# Altium footprint library SuperBot_PcbLib1.PcbLib: 44 footprints (part 3 of 3)
Each footprint in its own frame and in the unit in brackets; x right, y up, seen from the top. Pads: shape width x height; smd on the part's side, far side on the other; paste and mask are expansions set on the pad; w line width, h text height; cw(c..) or ccw(c..) is an arc to the next point about the centre after c.
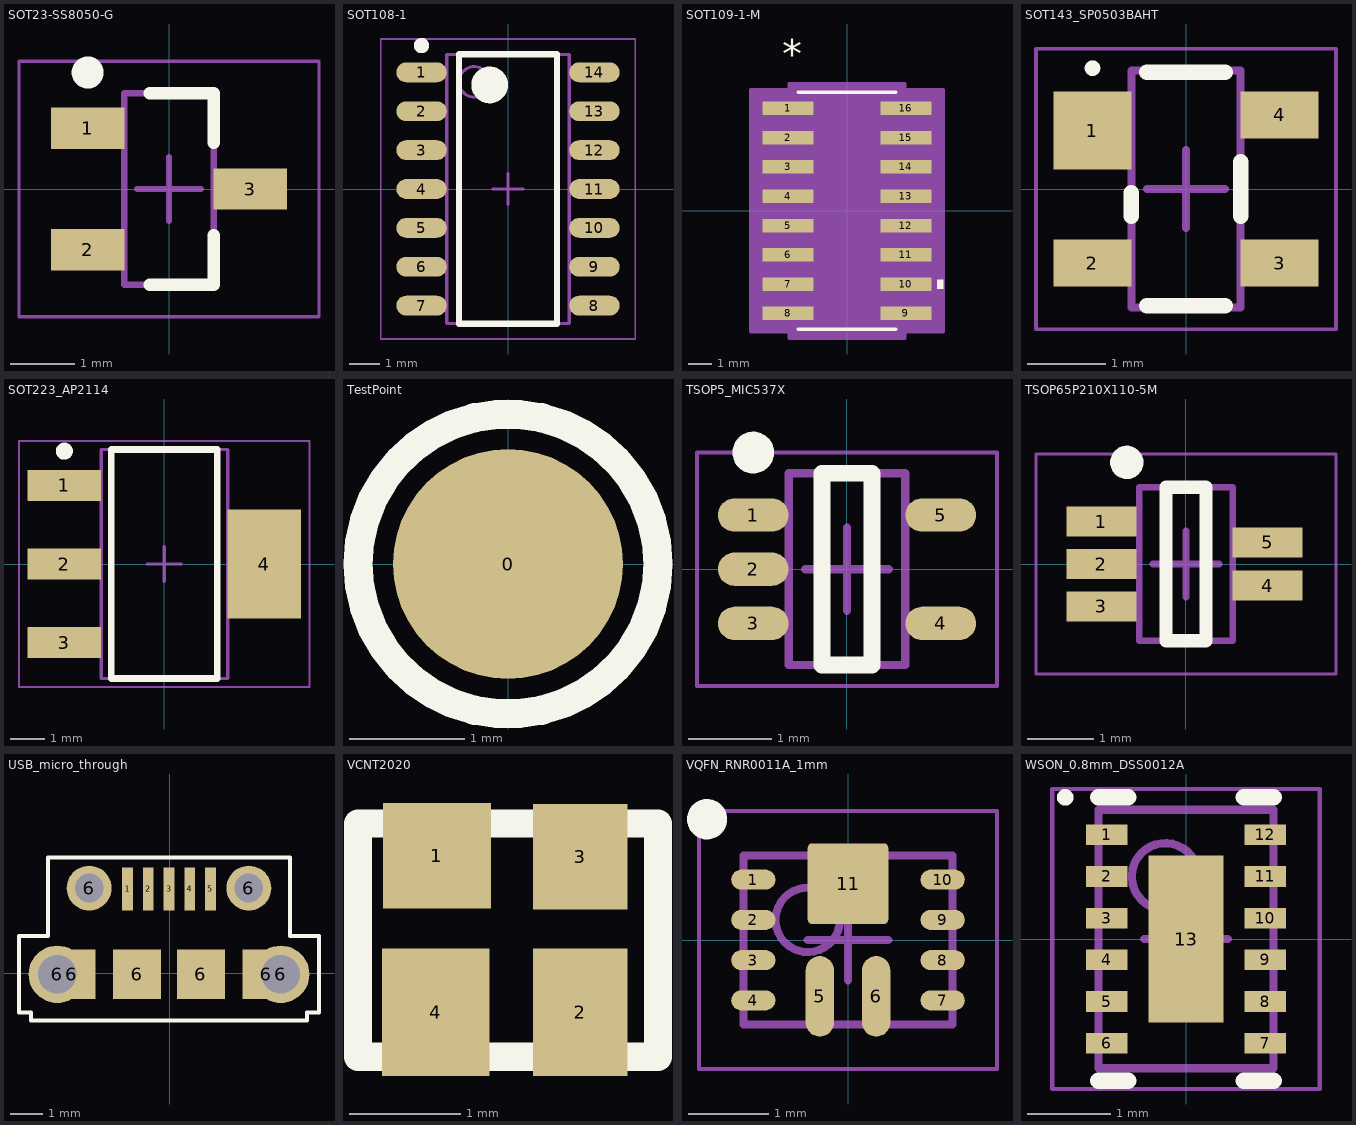
[diagram p2: the footprints below, top view; thin cyan lines are the x and y axes]

## SOT23-SS8050-G [mm] "SOT23, 3-Leads, Body 2.90x2.40mm, Pitch 0.95mm, IPC Low Density"
height 1.15
pads (3):
  rect 1.15x0.65 smd: 1(-1.275,0.95) 2(-1.275,-0.95) 3(1.275,0)
Top Overlay:
  circle w0.25: c-1.275,1.825 r0.125
  lines w0.2: -0.3,-1.5 0.7,-1.5 0.7,-0.725 ; -0.3,1.5 0.7,1.5 0.7,0.725
Mechanical 13:
  lines w0.1: -0.7,-1.5 0.7,-1.5 0.7,1.5 -0.7,1.5 -0.7,-1.5
Mechanical 15:
  lines w0.05: -2.35,-2 2.35,-2 2.35,2 -2.35,2 -2.35,-2
  lines w0.1: -0.5,0 0.5,0 ; 0,-0.5 0,0.5
3D body "SOT95P240X115-3M.step": height 1.15, standoff 0, extent -1.275,-1.5 1.275,1.5

## SOT108-1 [mm] "SO14 POP 14 3.9mm Low Density (74HC(T)164 Nexperia)"
height 1.75
pads (14):
  oval 1.65x0.65 smd: 1(-2.825,3.81) 2(-2.825,2.54) 3(-2.825,1.27) 4(-2.825,0) 5(-2.825,-1.27) 6(-2.825,-2.54) 7(-2.825,-3.81) 8(2.825,-3.81) 9(2.825,-2.54) 10(2.825,-1.27) 11(2.825,0) 12(2.825,1.27) 13(2.825,2.54) 14(2.825,3.81)
Top Overlay:
  circle w0.6: c-0.6,3.4 r0.3
  circle w0.25: c-2.825,4.685 r0.125
  lines w0.2: -1.6,-4.4 1.6,-4.4 1.6,4.4 -1.6,4.4 -1.6,-4.4
Mechanical 13:
  circle w0.1: c-1.1,3.5 r0.5
  lines w0.1: -2,-4.4 2,-4.4 2,4.4 -2,4.4 -2,-4.4
Mechanical 15:
  lines w0.05: -4.15,-4.9 4.15,-4.9 4.15,4.9 -4.15,4.9 -4.15,-4.9
  lines w0.1: -0.5,0 0.5,0 ; 0,-0.5 0,0.5
3D body "SOT108-1.step": height 1.75, standoff 0, extent -3,-4.4 3,4.4

## SOT109-1-M [mil]
pads (16):
  rect 87x23 smd paste+0 mask+0: 1(-100.5,175) 2(-100.5,125) 3(-100.5,75) 4(-100.5,25) 5(-100.5,-25) 6(-100.5,-75) 7(-100.5,-125) 8(-100.5,-175) 9(100.5,-175) 10(100.5,-125) 11(100.5,-75) 12(100.5,-25) 13(100.5,25) 14(100.5,75) 15(100.5,125) 16(100.5,175)
Top Overlay:
  region: 154,-117.5 164,-117.5 164,-132.5 154,-132.5
  lines w6: -83.5,-202 83.5,-202 ; -83.5,202 83.5,202
  text "*" at -110.5,243 h50
Mechanical 13:
  lines w0: -12,197 ccw(c0,197) 12,197
  lines w1: -122,-184.5 -122,-165.5 -78.5,-165.5 -78.5,-184.5 -122,-184.5 ; -122,-134.5 -122,-115.5 -78.5,-115.5 -78.5,-134.5 -122,-134.5 ; -122,-84.5 -122,-65.5 -78.5,-65.5 -78.5,-84.5 -122,-84.5 ; -122,-34.5 -122,-15.5 -78.5,-15.5 -78.5,-34.5 -122,-34.5 ; -122,15.5 -122,34.5 -78.5,34.5 -78.5,15.5 -122,15.5 ; -122,65.5 -122,84.5 -78.5,84.5 -78.5,65.5 -122,65.5 ; -122,115.5 -122,134.5 -78.5,134.5 -78.5,115.5 -122,115.5 ; -122,165.5 -122,184.5 -78.5,184.5 -78.5,165.5 -122,165.5 ; -78.5,-197 78.5,-197 78.5,197 -78.5,197 -78.5,-197 ; 78.5,-184.5 78.5,-165.5 122,-165.5 122,-184.5 78.5,-184.5 ; 78.5,-134.5 78.5,-115.5 122,-115.5 122,-134.5 78.5,-134.5 ; 78.5,-84.5 78.5,-65.5 122,-65.5 122,-84.5 78.5,-84.5 ; 78.5,-34.5 78.5,-15.5 122,-15.5 122,-34.5 78.5,-34.5 ; 78.5,15.5 78.5,34.5 122,34.5 122,15.5 78.5,15.5 ; 78.5,65.5 78.5,84.5 122,84.5 122,65.5 78.5,65.5 ; 78.5,115.5 78.5,134.5 122,134.5 122,115.5 78.5,115.5 ; 78.5,165.5 78.5,184.5 122,184.5 122,165.5 78.5,165.5
  text "*" at -63.5,194 h50
Mechanical 15:
  region: -98.5,-206.5 -164,-206.5 -164,206.5 -98.5,206.5 -98.5,217 98.5,217 98.5,206.5 164,206.5 164,-206.5 98.5,-206.5 98.5,-217 -98.5,-217
  lines w6: -164,-206.5 -164,206.5 -98.5,206.5 -98.5,217 98.5,217 98.5,206.5 164,206.5 164,-206.5 98.5,-206.5 98.5,-217 -98.5,-217 -98.5,-206.5 -164,-206.5
3D body: height 10, standoff 0, extent 0,0 10,10

## SOT143_SP0503BAHT [mm] "SOT143, 4-Leads, Body 2.92x2.37mm, Pitch 1.90mm, IPC Medium Density"
height 1.2
pads (4):
  rect 1x1 smd: 1(-1.2,0.75)
  rect 1x0.6 smd: 2(-1.2,-0.95) 3(1.2,-0.95) 4(1.2,0.95)
Top Overlay:
  circle w0.1: c-1.2,1.55 r0.05
  lines w0.2: -0.7,-0.35 -0.7,-0.05 ; -0.5,-1.5 0.5,-1.5 ; -0.5,1.5 0.5,1.5 ; 0.7,-0.35 0.7,0.35
Mechanical 13:
  lines w0.1: -0.7,-1.52 0.7,-1.52 0.7,1.52 -0.7,1.52 -0.7,-1.52
Mechanical 15:
  lines w0.05: -1.925,-1.8 1.925,-1.8 1.925,1.8 -1.925,1.8 -1.925,-1.8
  lines w0.1: -0.5,0 0.5,0 ; 0,-0.5 0,0.5
3D body "SOT143_SP0503BAHT.step": height 1.2, standoff 0.12, extent -0.855,-1.52 0.855,1.52

## SOT223_AP2114 [mm] "SOT223, 4-Leads, Body 6.50x7.00mm (avg), Pitch 2.30mm, IPC Medium Density"
height 1.8
pads (4):
  rect 2.15x0.9 smd: 1(-2.925,2.3) 2(-2.925,0) 3(-2.925,-2.3)
  rect 2.15x3.2 smd: 4(2.925,0)
Top Overlay:
  circle w0.25: c-2.925,3.3 r0.125
  lines w0.2: -1.55,-3.35 1.55,-3.35 1.55,3.35 -1.55,3.35 -1.55,-3.35
Mechanical 13:
  lines w0.1: -1.85,-3.35 1.85,-3.35 1.85,3.35 -1.85,3.35 -1.85,-3.35
Mechanical 15:
  lines w0.05: -4.25,-3.6 4.25,-3.6 4.25,3.6 -4.25,3.6 -4.25,-3.6
  lines w0.1: -0.5,0 0.5,0 ; 0,-0.5 0,0.5
3D body "SOT223_AP2114 .step": height 1.8, standoff 0, extent -3.5,-3.35 3.5,3.35

## TestPoint [mm] "Test Point"
pads (1):
  round 2 smd: 0(0,0)
Top Overlay:
  circle w0.254: c0,0 r1.304

## TSOP5_MIC537X [mm] "TSOP, 6-Leads, Body 2.03x1.25mm, Pitch 0.65mm, IPC Medium Density"
height 1.1
pads (5):
  oval 0.85x0.4 smd: 1(-1.125,0.65) 2(-1.125,0) 3(-1.125,-0.65) 4(1.125,-0.65) 5(1.125,0.65)
Top Overlay:
  circle w0.25: c-1.125,1.4 r0.125
  lines w0.2: -0.3,-1.15 0.3,-1.15 0.3,1.15 -0.3,1.15 -0.3,-1.15
Mechanical 13:
  lines w0.1: -0.7,-1.15 0.7,-1.15 0.7,1.15 -0.7,1.15 -0.7,-1.15
Mechanical 15:
  lines w0.05: -1.8,-1.4 1.8,-1.4 1.8,1.4 -1.8,1.4 -1.8,-1.4
  lines w0.1: -0.5,0 0.5,0 ; 0,-0.5 0,0.5
3D body "TSOP5_MIC537X.step": height 1.1, standoff 0.02, extent -1.01,-1.15 1.01,1.15

## TSOP65P210X110-5M [mm] "TSOP, 5-Leads, Body 2.03x1.25mm, Pitch 0.65mm, IPC Low Density"
height 1.1
pads (5):
  rect 1.05x0.45 smd: 1(-1.27,0.635) 2(-1.27,0) 3(-1.27,-0.635) 4(1.225,-0.325) 5(1.225,0.325)
Top Overlay:
  circle w0.25: c-0.889,1.524 r0.125
  lines w0.2: -0.3,-1.15 -0.3,1.15 0.3,1.15 0.3,-1.15 -0.3,-1.15
Mechanical 13:
  lines w0.1: -0.7,-1.15 -0.7,1.15 0.7,1.15 0.7,-1.15 -0.7,-1.15
Mechanical 15:
  lines w0.05: -2.25,-1.65 -2.25,1.65 2.25,1.65 2.25,-1.65 -2.25,-1.65
  lines w0.1: -0.5,0 0.5,0 ; 0,-0.5 0,0.5
3D body "TSOP65P210X110-5M.step": height 1.1, standoff 0, extent -1.01,-1.15 1.01,1.15

## USB_micro_through [mm]
pads (13):
  rect 0.33x1.35 smd: 1(-1.325,2.65) 2(-0.675,2.65) 3(-0.025,2.65) 4(0.625,2.65) 5(1.275,2.65)
  round 1.8 hole 1.2: 6(-3.525,-0.025) 6(3.475,-0.025)
  rect 1.5x1.55 smd: 6(-3.075,-0.025) 6(-1.025,-0.025) 6(0.975,-0.025) 6(3.025,-0.025)
  round 1.408 hole 0.9: 6(-2.525,2.675) 6(2.475,2.675)
Top Overlay:
  lines w0.127: -3.81,1.168 -4.724,1.168 -4.724,-1.219 -4.343,-1.219 -4.343,-1.473 4.293,-1.473 4.293,-1.219 4.674,-1.219 4.674,1.168 3.759,1.168 3.759,3.632 -3.81,3.632 -3.81,1.194
3D body "10118194c.stp": height 2.74, standoff -0.53, extent -4.037,-2.688 4.013,2.892

## VCNT2020 [mm]
pads (4):
  rect 0.97x0.95 smd: 1(3.81,3.81)
  rect 0.85x1.15 smd: 2(5.1,2.4)
  rect 0.85x0.95 smd: 3(5.1,3.8)
  rect 0.97x1.15 smd: 4(3.8,2.4)
Top Overlay:
  lines w0.254: 3.1,2 5.8,2 5.8,4.1 3.1,4.1 3.1,2
Mechanical 15:
  lines w0.025: 3.1,2 3.1,4.1 5.7,4.1 5.7,2 3.1,2
3D body: height 0.8, standoff 0, extent 3.05,2.05 5.65,4.15

## VQFN_RNR0011A_1mm [mm] "QFN, 12-Leads, Body 2.50x2.00mm, Pitch 0.70mm/0.50mm, IPC Medium Density"
height 1
pads (11):
  oval 0.55x0.25 smd: 1(-1.175,0.75) 2(-1.175,0.25) 3(-1.175,-0.25) 4(-1.175,-0.75) 7(1.175,-0.75) 8(1.175,-0.25) 9(1.175,0.25) 10(1.175,0.75)
  oval 0.35x1 smd: 5(-0.35,-0.7) 6(0.35,-0.7)
  rrect10% 1x1 smd: 11(0,0.7)
Top Overlay:
  circle w0.25: c-1.75,1.5 r0.125
Top Solder:
  lines w0.3: 0,0.813 0,1.194
Mechanical 13:
  circle w0.1: c-0.5,0.25 r0.4
  lines w0.1: -1.3,-1.05 -1.3,1.05 1.3,1.05 1.3,-1.05 -1.3,-1.05
Mechanical 15:
  lines w0.05: -1.85,-1.6 -1.85,1.6 1.85,1.6 1.85,-1.6 -1.85,-1.6
  lines w0.1: -0.5,0 0.5,0 ; 0,-0.5 0,0.5
3D body: height 1, standoff 0.05, extent -1.3,-1.05 1.3,1.05

## WSON_0.8mm_DSS0012A [mm] "SON, 12-Leads, Body 3.00x2.00mm, Pitch 0.50mm, Thermal Pad 2.00x0.79mm, IPC Medium Density"
height 0.8
pads (13):
  rect 0.5x0.25 smd: 1(-0.95,1.25) 2(-0.95,0.75) 3(-0.95,0.25) 4(-0.95,-0.25) 5(-0.95,-0.75) 6(-0.95,-1.25) 7(0.95,-1.25) 8(0.95,-0.75) 9(0.95,-0.25) 10(0.95,0.25) 11(0.95,0.75) 12(0.95,1.25)
  rect 0.9x2 smd: 13(0,0)
Top Overlay:
  circle w0.1: c-1.45,1.7 r0.05
  lines w0.2: -1.05,-1.7 -0.695,-1.7 ; -1.05,1.7 -0.695,1.7 ; 0.695,-1.7 1.05,-1.7 ; 0.695,1.7 1.05,1.7
Mechanical 13:
  circle w0.1: c-0.25,0.75 r0.4
  lines w0.1: -1.05,-1.55 -1.05,1.55 1.05,1.55 1.05,-1.55 -1.05,-1.55
Mechanical 15:
  lines w0.05: -1.605,-1.8 -1.605,1.8 1.605,1.8 1.605,-1.8 -1.605,-1.8
  lines w0.1: -0.5,0 0.5,0 ; 0,-0.5 0,0.5
3D body "WSON_0.8mm_DSS0012A.step": height 0.8, standoff 0, extent -1.13,-1.55 1.13,1.55